# EAGLE library part AD633 (library _mtvl_ic)
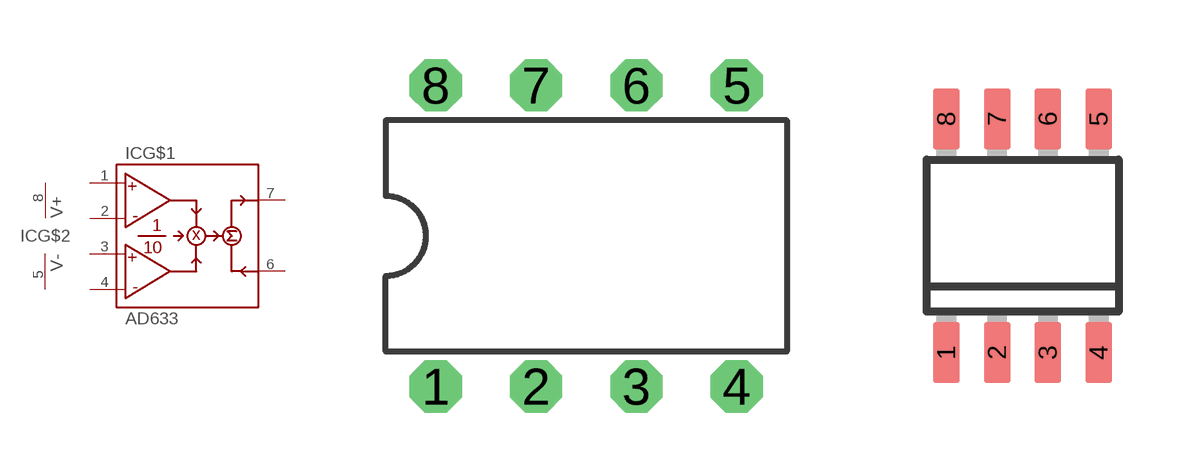
[diagram p17: symbol with the pads of DIP8; footprints DIP8, SO8]

Designator prefix IC; gates G$1=AD633 G$2=PWR

## AD633AN, AD633JN  [DIP8]
1  G$1:X1  in
2  G$1:X2  in
3  G$1:Y1  in
4  G$1:Y2  in
5  G$2:V-  pwr
6  G$1:Z  in
7  G$1:W  out
8  G$2:V+  pwr

## AD633AR, AD633JR  [SO8]
1  G$1:Y1  in
2  G$1:Y2  in
3  G$2:V-  pwr
4  G$1:Z  in
5  G$1:W  out
6  G$2:V+  pwr
7  G$1:X1  in
8  G$1:X2  in

## Footprint DIP8 (pad centres in mm)
Dual In Line Package
drill 0.813 pad 1.27 octagon: 1 -3.81,-3.81; 2 -1.27,-3.81; 3 1.27,-3.81; 4 3.81,-3.81; 5 3.81,3.81; 6 1.27,3.81; 7 -1.27,3.81; 8 -3.81,3.81

## Footprint SO8 (pad centres in mm)
SMALL OUTLINE INTEGRATED CIRCUIT
smd 0.66 x 1.524: 1 -1.905,-2.921; 2 -0.635,-2.921; 3 0.635,-2.921; 4 1.905,-2.921; 5 1.905,2.921; 6 0.635,2.921; 7 -0.635,2.921; 8 -1.905,2.921